# Altium footprint library IRL530NSTRLPBF.PcbLib: 3 footprints
Each footprint in its own frame and in the unit in brackets; x right, y up, seen from the top. Pads: shape width x height; smd on the part's side, far side on the other; paste and mask are expansions set on the pad; w line width, h text height; cw(c..) or ccw(c..) is an arc to the next point about the centre after c.
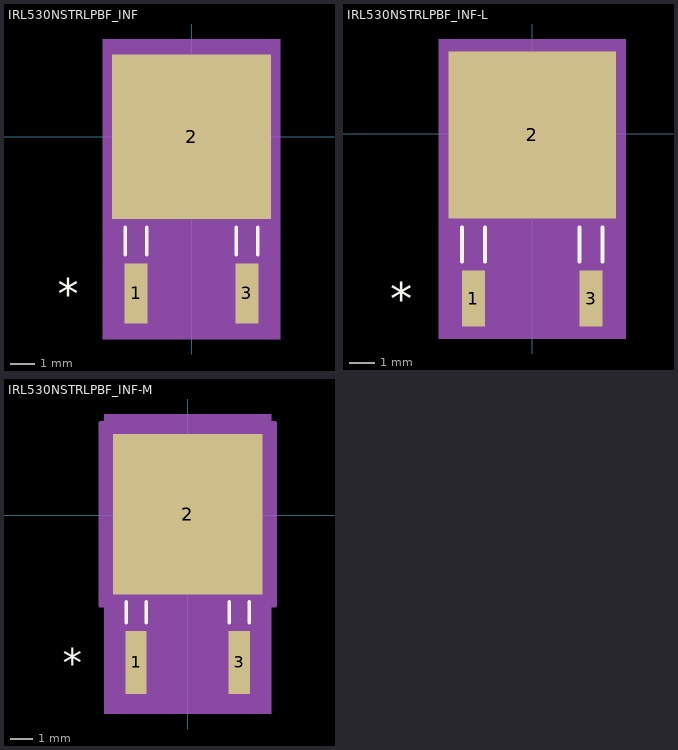
[diagram p0: the footprints below, top view; thin cyan lines are the x and y axes]

## IRL530NSTRLPBF_INF [mil]
pads (3):
  rect 37x98 smd paste+0 mask+0: 1(-90.16,-254.84) 3(90.16,-254.84)
  rect 259x268 smd paste+0 mask+0: 2(0,0)
Top Overlay:
  lines w6: -107.66,-191.84 -107.66,-147.1 ; -72.66,-191.84 -72.66,-147.1 ; 72.66,-191.84 72.66,-147.1 ; 107.66,-191.84 107.66,-147.1
  text "*" at -217.81,-279.84 h50
Mechanical 5:
  region: -144.5,159 144.5,159 144.5,-328.84 -144.5,-328.84
Mechanical 13:
  lines w1: -17.5,-120 -17.5,-160 17.5,-160 17.5,-120 ; -128.5,-120 128.5,-120 128.5,120 -128.5,120 -128.5,-120 ; -107.66,-289.84 -107.66,-120 -72.66,-120 -72.66,-289.84 -107.66,-289.84 ; 72.66,-289.84 72.66,-120 107.66,-120 107.66,-289.84 72.66,-289.84
  text "*" at -102.66,-135 h50
Mechanical 15:
  region: -117.66,-144 -140.5,-144 -140.5,144 140.5,144 140.5,-144 117.66,-144 117.66,-313.84 62.66,-313.84 62.66,-215.84 -62.66,-215.84 -62.66,-313.84 -117.66,-313.84
  lines w6: -140.5,-144 -140.5,144 140.5,144 140.5,-144 117.66,-144 117.66,-313.84 62.66,-313.84 62.66,-215.84 -62.66,-215.84 -62.66,-313.84 -117.66,-313.84 -117.66,-144 -140.5,-144
3D body "IRL530NSTRLPBF_INF.step": height 94.09, standoff -2.01, extent -128.5,-196.42 128.5,120.12

## IRL530NSTRLPBF_INF-L [mil]
pads (3):
  rect 35x86 smd paste+0 mask+0: 1(-90.16,-252.84) 3(90.16,-252.84)
  rect 257x256 smd paste+0 mask+0: 2(0,-2)
Top Overlay:
  lines w6: -107.66,-195.84 -107.66,-144 ; -72.66,-195.84 -72.66,-144 ; 72.66,-195.84 72.66,-144 ; 107.66,-195.84 107.66,-144
  text "*" at -217.81,-277.84 h50
Mechanical 5:
  region: -143.5,145 143.5,145 143.5,-314.84 -143.5,-314.84
Mechanical 13:
  lines w1: -17.5,-120 -17.5,-160 17.5,-160 17.5,-120 ; -128.5,-120 128.5,-120 128.5,120 -128.5,120 -128.5,-120 ; -107.66,-289.84 -107.66,-120 -72.66,-120 -72.66,-289.84 -107.66,-289.84 ; 72.66,-289.84 72.66,-120 107.66,-120 107.66,-289.84 72.66,-289.84
  text "*" at -102.66,-135 h50
Mechanical 15:
  region: -111.66,-134 -132.5,-134 -132.5,130 132.5,130 132.5,-134 111.66,-134 111.66,-299.84 68.66,-299.84 68.66,-213.84 -68.66,-213.84 -68.66,-299.84 -111.66,-299.84
  lines w6: -132.5,-134 -132.5,130 132.5,130 132.5,-134 111.66,-134 111.66,-299.84 68.66,-299.84 68.66,-213.84 -68.66,-213.84 -68.66,-299.84 -111.66,-299.84 -111.66,-134 -132.5,-134
3D body "IRL530NSTRLPBF_INF.step": height 94.09, standoff -2.01, extent -128.5,-196.42 128.5,120.12

## IRL530NSTRLPBF_INF-M [mil]
pads (3):
  rect 37x110 smd paste+0 mask+0: 1(-90.16,-256.84) 3(90.16,-256.84)
  rect 261x280 smd paste+0 mask+0: 2(0,2)
Top Overlay:
  lines w6: -107.66,-187.84 -107.66,-151.1 ; -72.66,-187.84 -72.66,-151.1 ; 72.66,-187.84 72.66,-151.1 ; 107.66,-187.84 107.66,-151.1
  text "*" at -217.81,-281.84 h50
Mechanical 5:
  region: -145.5,177 145.5,177 145.5,-346.84 -145.5,-346.84
Mechanical 13:
  lines w1: -17.5,-120 -17.5,-160 17.5,-160 17.5,-120 ; -128.5,-120 128.5,-120 128.5,120 -128.5,120 -128.5,-120 ; -107.66,-289.84 -107.66,-120 -72.66,-120 -72.66,-289.84 -107.66,-289.84 ; 72.66,-289.84 72.66,-120 107.66,-120 107.66,-289.84 72.66,-289.84
  text "*" at -102.66,-135 h50
Mechanical 15:
  region: -127.66,-158 -152.5,-158 -152.5,162 152.5,162 152.5,-158 127.66,-158 127.66,-331.84 52.66,-331.84 52.66,-221.84 -52.66,-221.84 -52.66,-331.84 -127.66,-331.84
  lines w6: -152.5,-158 -152.5,162 152.5,162 152.5,-158 127.66,-158 127.66,-331.84 52.66,-331.84 52.66,-221.84 -52.66,-221.84 -52.66,-331.84 -127.66,-331.84 -127.66,-158 -152.5,-158
3D body "IRL530NSTRLPBF_INF.step": height 94.09, standoff -2.01, extent -128.5,-196.42 128.5,120.12